# Altium footprint library 1818vg83.PcbLib: 1 footprints
Each footprint in its own frame and in the unit in brackets; x right, y up, seen from the top. Pads: shape width x height; smd on the part's side, far side on the other; paste and mask are expansions set on the pad; w line width, h text height; cw(c..) or ccw(c..) is an arc to the next point about the centre after c.
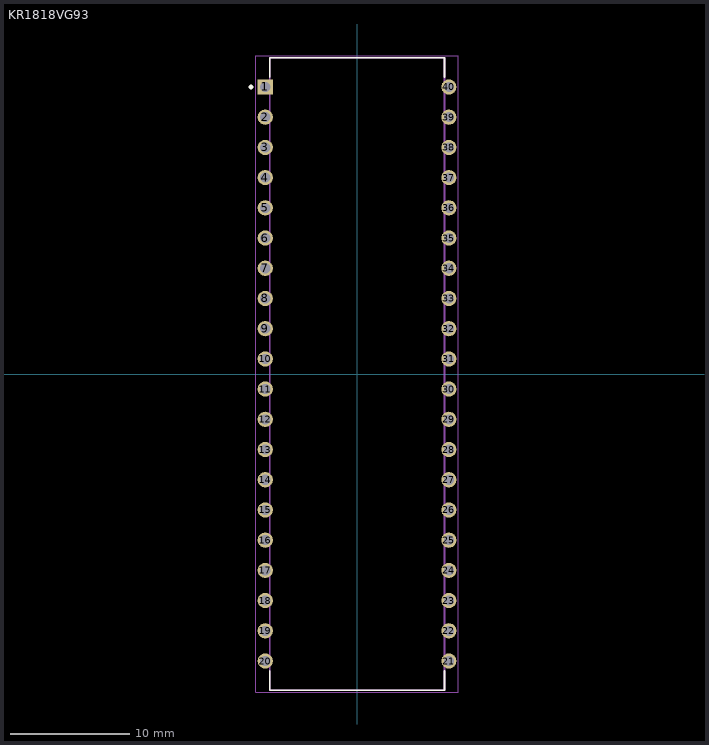
[diagram p0: the footprint, top view; thin cyan lines are the x and y axes]

## KR1818VG93 [mm]
pads (40):
  rect 1.28x1.28 hole 0.85: 1(-7.718,24.13)
  round 1.28 hole 0.85: 2(-7.718,21.59) 3(-7.718,19.05) 4(-7.718,16.51) 5(-7.718,13.97) 6(-7.718,11.43) 7(-7.718,8.89) 8(-7.718,6.35) 9(-7.718,3.81) 10(-7.718,1.27) 11(-7.718,-1.27) 12(-7.718,-3.81) 13(-7.718,-6.35) 14(-7.718,-8.89) 15(-7.718,-11.43) 16(-7.718,-13.97) 17(-7.718,-16.51) 18(-7.718,-19.05) 19(-7.718,-21.59) 20(-7.718,-24.13) 21(7.718,-24.13) 22(7.718,-21.59) 23(7.718,-19.05) 24(7.718,-16.51) 25(7.718,-13.97) 26(7.718,-11.43) 27(7.718,-8.89) 28(7.718,-6.35) 29(7.718,-3.81) 30(7.718,-1.27) 31(7.718,1.27) 32(7.718,3.81) 33(7.718,6.35) 34(7.718,8.89) 35(7.718,11.43) 36(7.718,13.97) 37(7.718,16.51) 38(7.718,19.05) 39(7.718,21.59) 40(7.718,24.13)
Top Overlay:
  circle w0.2: c-8.918,24.13 r0.1
  lines w0.127: -7.35,-24.95 -7.35,-26.6 7.35,-26.6 7.35,-24.95 ; -7.35,24.95 -7.35,26.6 7.35,26.6 7.35,24.95
Mechanical 13:
  circle w0.2: c-7.718,24.13 r0.1
  lines w0.127: -7.35,-26.6 -7.35,26.6 7.35,26.6 7.35,-26.6 -7.35,-26.6
Mechanical 15:
  lines w0.05: -8.5,-26.75 -8.5,26.75 8.5,26.75 8.5,-26.75 -8.5,-26.75
3D body "DIP-40_IC_SOCKET.STEP": height 4.24, standoff -3.13, extent -8.85,-25.4 8.85,25.4
3D body "CerDIP40-600-metric-.step": height 8.2, standoff 0.05, extent -7.874,-25.4 7.426,25.4